# EAGLE library part MMA7455 (library JLB6_Processor)
Accelerometer MMA7455 (Freescale) ADXL345 (analog devices) LIS302D (ST)
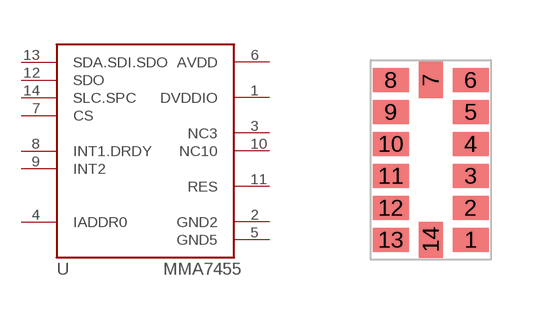
[diagram p29: symbol with the pads of LGA14; footprint LGA14]

Designator prefix U

## MMA7455  [LGA14]
1  DVDDIO
2  GND2
3  NC3
4  IADDR0
5  GND5
6  AVDD
7  CS
8  INT1.DRDY
9  INT2
10  NC10
11  RES
12  SDO
13  SDA.SDI.SDO
14  SLC.SPC

## Footprint LGA14 (pad centres in mm)
smd 0.9 x 0.6: 1 1,-2; 2 1,-1.2; 3 1,-0.4; 4 1,0.4; 5 1,1.2; 6 1,2; 8 -1,2; 9 -1,1.2; 10 -1,0.4; 11 -1,-0.4; 12 -1,-1.2; 13 -1,-2
smd 0.6 x 0.9: 7 0,2; 14 0,-2